# Altium footprint library DPAK.PcbLib: 3 footprints
Each footprint in its own frame and in the unit in brackets; x right, y up, seen from the top. Pads: shape width x height; smd on the part's side, far side on the other; paste and mask are expansions set on the pad; w line width, h text height; cw(c..) or ccw(c..) is an arc to the next point about the centre after c.
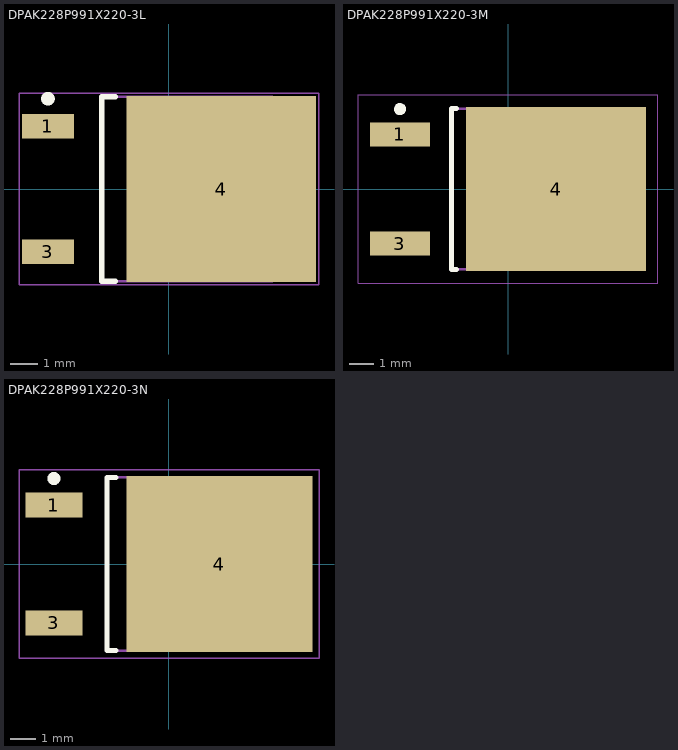
[diagram p0: the footprints below, top view; thin cyan lines are the x and y axes]

## DPAK228P991X220-3L [mm] "D-PAK, 3-Pads, Body 6.20x6.72mm (max), IPC High Density"
height 2.2
pads (3):
  rect 1.9x0.9 smd: 1(-4.4,2.28) 3(-4.4,-2.28)
  rect 6.9x6.75 smd: 4(1.9,0)
Top Overlay:
  circle w0.25: c-4.4,3.28 r0.125
  lines w0.2: -1.95,-3.35 -2.45,-3.35 -2.45,3.35 -1.95,3.35
Mechanical 13:
  lines w0.1: -2.45,-3.35 3.75,-3.35 3.75,3.35 -2.45,3.35 -2.45,-3.35
Mechanical 15:
  lines w0.05: -5.45,-3.475 5.45,-3.475 5.45,3.475 -5.45,3.475 -5.45,-3.475
  lines w0.1: -0.5,0 0.5,0 ; 0,-0.5 0,0.5
3D body "DPAK228P991X220-3L.step": height 2.2, standoff 0, extent -4.67,-3.35 5.235,3.35

## DPAK228P991X220-3M [mm] "D-PAK, 3-Pads, Body 6.20x6.72mm (max), IPC Low Density"
height 2.2
pads (3):
  rect 2.5x1 smd: 1(-4.5,2.28) 3(-4.5,-2.28)
  rect 7.5x6.85 smd: 4(2,0)
Top Overlay:
  circle w0.25: c-4.5,3.33 r0.125
  lines w0.2: -2.15,-3.35 -2.35,-3.35 -2.35,3.35 -2.15,3.35
Mechanical 13:
  lines w0.1: -2.35,-3.35 -2.35,3.35 3.85,3.35 3.85,-3.35 -2.35,-3.35
Mechanical 15:
  lines w0.05: -6.25,-3.925 -6.25,3.925 6.25,3.925 6.25,-3.925 -6.25,-3.925
  lines w0.1: -0.5,0 0.5,0 ; 0,-0.5 0,0.5
3D body "DPAK228P991X220-3M.step": height 2.2, standoff 0, extent -4.47,-3.35 5.435,3.35

## DPAK228P991X220-3N [mm] "D-PAK, 3-Pads, Body 6.20x6.72mm (max), IPC Medium Density"
height 2.2
pads (3):
  rect 2.2x0.95 smd: 1(-4.45,2.28) 3(-4.45,-2.28)
  rect 7.2x6.8 smd: 4(1.95,0)
Top Overlay:
  circle w0.25: c-4.45,3.305 r0.125
  lines w0.2: -2.05,-3.35 -2.4,-3.35 -2.4,3.35 -2.05,3.35
Mechanical 13:
  lines w0.1: -2.4,-3.35 -2.4,3.35 3.8,3.35 3.8,-3.35 -2.4,-3.35
Mechanical 15:
  lines w0.05: -5.8,-3.65 -5.8,3.65 5.8,3.65 5.8,-3.65 -5.8,-3.65
  lines w0.1: -0.5,0 0.5,0 ; 0,-0.5 0,0.5
3D body "DPAK228P991X220-3N.step": height 2.2, standoff 0, extent -4.57,-3.35 5.335,3.35